# Altium footprint library DR125.PcbLib: 1 footprints
Each footprint in its own frame and in the unit in brackets; x right, y up, seen from the top. Pads: shape width x height; smd on the part's side, far side on the other; paste and mask are expansions set on the pad; w line width, h text height; cw(c..) or ccw(c..) is an arc to the next point about the centre after c.
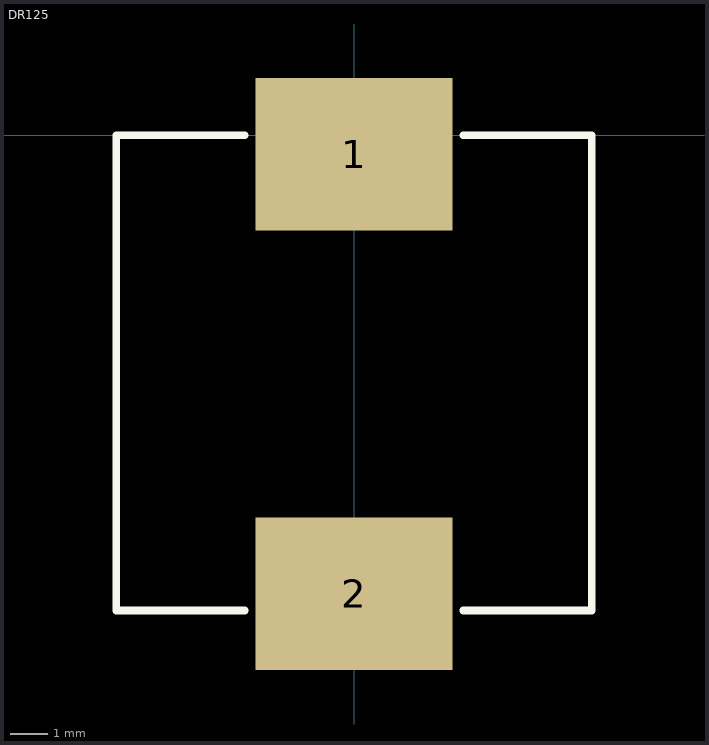
[diagram p0: the footprint, top view; thin cyan lines are the x and y axes]

## DR125 [mil]
height 236
pads (2):
  rect 207x160 smd: 1(0,-20) 2(0,-482.44)
TopOverlay:
  lines w8: -115,-500 -250,-500 -250,0 -115,0 ; 115,-500 250,-500 250,0 115,0
3D body: height 240, standoff 0, extent -245.35,-495.35 245.35,-4.65
3D body: height 242, standoff 0, extent -188.5,-439.62 190,-60.37